# Altium schematic symbol library WL-S7DS.SchLib: 22 symbols
Pins are listed as number, name and electrical type; pins without a type are passive.

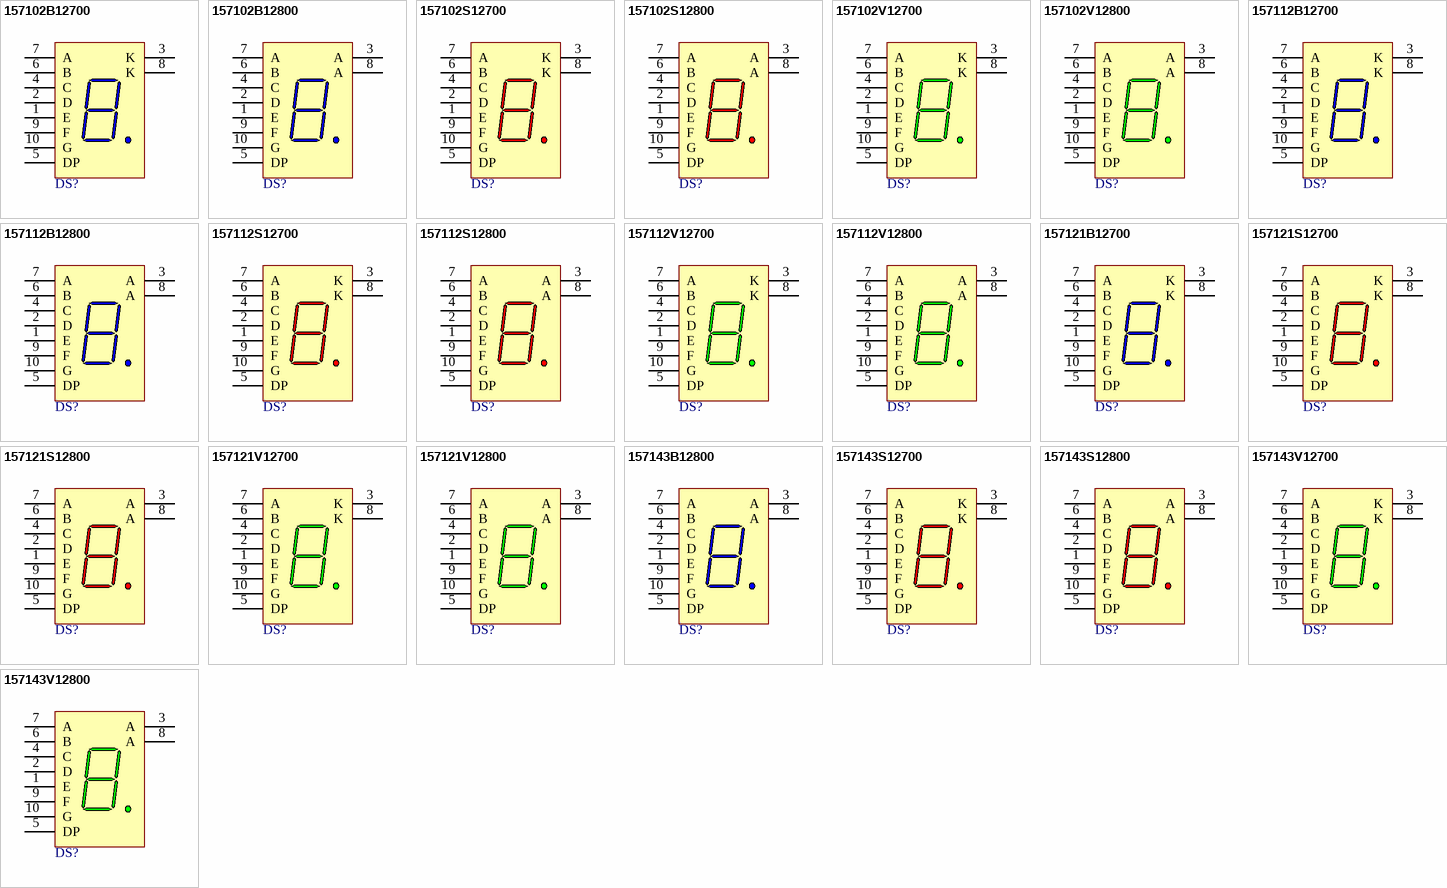
[diagram p0: symbols 157102B12700 to 157143V12800]

## 157102B12700
designator DS?, comment Blue, 3V  (value not drawn)
WL-S7DS 7 Segments Display SMT Single Digit, 0.2" / 5mm, Blue, 3V, 24mcd; Manufacturer Part Number: 157102B12700; Manufacturer: Wurth Elektronik; Circuitry: Common Cathode; ComponentLink1Description: Website Link; ComponentLink1URL: https://www.we-online.com/redexpert/article/157102B12700?ad; ComponentLink2Description: Datasheet Link; ComponentLink2URL: https://www.we-online.com/redexpert/spec/157102B12700?ad; Category: 7 Segments Display; Match Code: WL-S7DS; Mount: Surface Mount; Operating Temperature Max: 85°C; Operating Temperature Min: -35°C; Packaging: Tape and Reel; Length: 10mm; Width: 6.9mm; Height: 3mm; Display Height: 0.2" / 5mm; Emitting Color: Blue; Forward Voltage: 3V; Luminous Intensity: 24mcd
footprint WL-S7DS_L10W6.9H3
pins: 1 E "Cathode", 2 D "Cathode", 3 K "Anode", 4 C "Cathode", 5 DP "Cathode", 6 B "Cathode", 7 A "Cathode", 8 K "Anode", 9 F "Cathode", 10 G "Cathode"

## 157102B12800
designator DS?, comment Blue, 3V  (value not drawn)
WL-S7DS 7 Segments Display SMT Single Digit, 0.2" / 5mm, Blue, 3V, 24mcd; Manufacturer Part Number: 157102B12800; Manufacturer: Wurth Elektronik; Circuitry: Common Anode; ComponentLink1Description: Website Link; ComponentLink1URL: https://www.we-online.com/redexpert/article/157102B12800?ad; ComponentLink2Description: Datasheet Link; ComponentLink2URL: https://www.we-online.com/redexpert/spec/157102B12800?ad; Category: 7 Segments Display; Match Code: WL-S7DS; Mount: Surface Mount; Operating Temperature Max: 85°C; Operating Temperature Min: -35°C; Packaging: Tape and Reel; Length: 10mm; Width: 6.9mm; Height: 3mm; Display Height: 0.2" / 5mm; Emitting Color: Blue; Forward Voltage: 3V; Luminous Intensity: 24mcd
footprint WL-S7DS_L10W6.9H3
pins: 1 E "Cathode", 2 D "Cathode", 3 A "Anode", 4 C "Cathode", 5 DP "Cathode", 6 B "Cathode", 7 A "Cathode", 8 A "Anode", 9 F "Cathode", 10 G "Cathode"

## 157102S12700
designator DS?, comment Super Red, 2V  (value not drawn)
WL-S7DS 7 Segments Display SMT Single Digit, 0.2" / 5mm, Super Red, 2V, 15mcd; Manufacturer Part Number: 157102S12700; Manufacturer: Wurth Elektronik; Circuitry: Common Cathode; ComponentLink1Description: Website Link; ComponentLink1URL: https://www.we-online.com/redexpert/article/157102S12700?ad; ComponentLink2Description: Datasheet Link; ComponentLink2URL: https://www.we-online.com/redexpert/spec/157102S12700?ad; Category: 7 Segments Display; Match Code: WL-S7DS; Mount: Surface Mount; Operating Temperature Max: 85°C; Operating Temperature Min: -35°C; Packaging: Tape and Reel; Length: 10mm; Width: 6.9mm; Height: 3mm; Display Height: 0.2" / 5mm; Emitting Color: Super Red; Forward Voltage: 2V; Luminous Intensity: 15mcd
footprint WL-S7DS_L10W6.9H3
pins: 1 E "Cathode", 2 D "Cathode", 3 K "Anode", 4 C "Cathode", 5 DP "Cathode", 6 B "Cathode", 7 A "Cathode", 8 K "Anode", 9 F "Cathode", 10 G "Cathode"

## 157102S12800
designator DS?, comment Super Red, 2V  (value not drawn)
WL-S7DS 7 Segments Display SMT Single Digit, 0.2" / 5mm, Super Red, 2V, 16mcd; Manufacturer Part Number: 157102S12800; Manufacturer: Wurth Elektronik; Circuitry: Common Anode; ComponentLink1Description: Website Link; ComponentLink1URL: https://www.we-online.com/redexpert/article/157102S12800?ad; ComponentLink2Description: Datasheet Link; ComponentLink2URL: https://www.we-online.com/redexpert/spec/157102S12800?ad; Category: 7 Segments Display; Match Code: WL-S7DS; Mount: Surface Mount; Operating Temperature Max: 85°C; Operating Temperature Min: -35°C; Packaging: Tape and Reel; Length: 10mm; Width: 6.9mm; Height: 3mm; Display Height: 0.2" / 5mm; Emitting Color: Super Red; Forward Voltage: 2V; Luminous Intensity: 16mcd
footprint WL-S7DS_L10W6.9H3
pins: 1 E "Cathode", 2 D "Cathode", 3 A "Anode", 4 C "Cathode", 5 DP "Cathode", 6 B "Cathode", 7 A "Cathode", 8 A "Anode", 9 F "Cathode", 10 G "Cathode"

## 157102V12700
designator DS?, comment Bright Green, 2V  (value not drawn)
WL-S7DS 7 Segments Display SMT Single Digit, 0.2" / 5mm, Bright Green, 2V, 17mcd; Manufacturer Part Number: 157102V12700; Manufacturer: Wurth Elektronik; Circuitry: Common Cathode; ComponentLink1Description: Website Link; ComponentLink1URL: https://www.we-online.com/redexpert/article/157102V12700?ad; ComponentLink2Description: Datasheet Link; ComponentLink2URL: https://www.we-online.com/redexpert/spec/157102V12700?ad; Category: 7 Segments Display; Match Code: WL-S7DS; Mount: Surface Mount; Operating Temperature Max: 85°C; Operating Temperature Min: -35°C; Packaging: Tape and Reel; Length: 10mm; Width: 6.9mm; Height: 3mm; Display Height: 0.2" / 5mm; Emitting Color: Bright Green; Forward Voltage: 2V; Luminous Intensity: 17mcd
footprint WL-S7DS_L10W6.9H3
pins: 1 E "Cathode", 2 D "Cathode", 3 K "Anode", 4 C "Cathode", 5 DP "Cathode", 6 B "Cathode", 7 A "Cathode", 8 K "Anode", 9 F "Cathode", 10 G "Cathode"

## 157102V12800
designator DS?, comment Bright Green, 2V  (value not drawn)
WL-S7DS 7 Segments Display SMT Single Digit, 0.2" / 5mm, Bright Green, 2V, 17mcd; Manufacturer Part Number: 157102V12800; Manufacturer: Wurth Elektronik; Circuitry: Common Anode; ComponentLink1Description: Website Link; ComponentLink1URL: https://www.we-online.com/redexpert/article/157102V12800?ad; ComponentLink2Description: Datasheet Link; ComponentLink2URL: https://www.we-online.com/redexpert/spec/157102V12800?ad; Category: 7 Segments Display; Match Code: WL-S7DS; Mount: Surface Mount; Operating Temperature Max: 85°C; Operating Temperature Min: -35°C; Packaging: Tape and Reel; Length: 10mm; Width: 6.9mm; Height: 3mm; Display Height: 0.2" / 5mm; Emitting Color: Bright Green; Forward Voltage: 2V; Luminous Intensity: 17mcd
footprint WL-S7DS_L10W6.9H3
pins: 1 E "Cathode", 2 D "Cathode", 3 A "Anode", 4 C "Cathode", 5 DP "Cathode", 6 B "Cathode", 7 A "Cathode", 8 A "Anode", 9 F "Cathode", 10 G "Cathode"

## 157112B12700
designator DS?, comment Blue, 3V  (value not drawn)
WL-S7DS 7 Segments Display SMT Single Digit, 0.3" / 7.62mm, Blue, 3V, 32mcd; Manufacturer Part Number: 157112B12700; Manufacturer: Wurth Elektronik; Circuitry: Common Cathode; ComponentLink1Description: Website Link; ComponentLink1URL: https://www.we-online.com/redexpert/article/157112B12700?ad; ComponentLink2Description: Datasheet Link; ComponentLink2URL: https://www.we-online.com/redexpert/spec/157112B12700?ad; Category: 7 Segments Display; Match Code: WL-S7DS; Mount: Surface Mount; Operating Temperature Max: 85°C; Operating Temperature Min: -35°C; Packaging: Tape and Reel; Length: 12mm; Width: 7.3mm; Height: 3.75mm; Display Height: 0.3" / 7.62mm; Emitting Color: Blue; Forward Voltage: 3V; Luminous Intensity: 32mcd
footprint WL-S7DS_L12W7.3H3.75
pins: 1 E "Cathode", 2 D "Cathode", 3 K "Anode", 4 C "Cathode", 5 DP "Cathode", 6 B "Cathode", 7 A "Cathode", 8 K "Anode", 9 F "Cathode", 10 G "Cathode"

## 157112B12800
designator DS?, comment Blue, 3V  (value not drawn)
WL-S7DS 7 Segments Display SMT Single Digit, 0.3" / 7.62mm, Blue, 3V, 32mcd; Manufacturer Part Number: 157112B12800; Manufacturer: Wurth Elektronik; Circuitry: Common Anode; ComponentLink1Description: Website Link; ComponentLink1URL: https://www.we-online.com/redexpert/article/157112B12800?ad; ComponentLink2Description: Datasheet Link; ComponentLink2URL: https://www.we-online.com/redexpert/spec/157112B12800?ad; Category: 7 Segments Display; Match Code: WL-S7DS; Mount: Surface Mount; Operating Temperature Max: 85°C; Operating Temperature Min: -35°C; Packaging: Tape and Reel; Length: 12mm; Width: 7.3mm; Height: 3.75mm; Display Height: 0.3" / 7.62mm; Emitting Color: Blue; Forward Voltage: 3V; Luminous Intensity: 32mcd
footprint WL-S7DS_L12W7.3H3.75
pins: 1 E "Cathode", 2 D "Cathode", 3 A "Anode", 4 C "Cathode", 5 DP "Cathode", 6 B "Cathode", 7 A "Cathode", 8 A "Anode", 9 F "Cathode", 10 G "Cathode"

## 157112S12700
designator DS?, comment Super Red, 2V  (value not drawn)
WL-S7DS 7 Segments Display SMT Single Digit, 0.3" / 7.62mm, Super Red, 2V, 28mcd; Manufacturer Part Number: 157112S12700; Manufacturer: Wurth Elektronik; Circuitry: Common Cathode; ComponentLink1Description: Website Link; ComponentLink1URL: https://www.we-online.com/redexpert/article/157112S12700?ad; ComponentLink2Description: Datasheet Link; ComponentLink2URL: https://www.we-online.com/redexpert/spec/157112S12700?ad; Category: 7 Segments Display; Match Code: WL-S7DS; Mount: Surface Mount; Operating Temperature Max: 85°C; Operating Temperature Min: -35°C; Packaging: Tape and Reel; Length: 12mm; Width: 7.3mm; Height: 3.75mm; Display Height: 0.3" / 7.62mm; Emitting Color: Super Red; Forward Voltage: 2V; Luminous Intensity: 28mcd
footprint WL-S7DS_L12W7.3H3.75
pins: 1 E "Cathode", 2 D "Cathode", 3 K "Anode", 4 C "Cathode", 5 DP "Cathode", 6 B "Cathode", 7 A "Cathode", 8 K "Anode", 9 F "Cathode", 10 G "Cathode"

## 157112S12800
designator DS?, comment Super Red, 2V  (value not drawn)
WL-S7DS 7 Segments Display SMT Single Digit, 0.3" / 7.62mm, Super Red, 2V, 28mcd; Manufacturer Part Number: 157112S12800; Manufacturer: Wurth Elektronik; Circuitry: Common Anode; ComponentLink1Description: Website Link; ComponentLink1URL: https://www.we-online.com/redexpert/article/157112S12800?ad; ComponentLink2Description: Datasheet Link; ComponentLink2URL: https://www.we-online.com/redexpert/spec/157112S12800?ad; Category: 7 Segments Display; Match Code: WL-S7DS; Mount: Surface Mount; Operating Temperature Max: 85°C; Operating Temperature Min: -35°C; Packaging: Tape and Reel; Length: 12mm; Width: 7.3mm; Height: 3.75mm; Display Height: 0.3" / 7.62mm; Emitting Color: Super Red; Forward Voltage: 2V; Luminous Intensity: 28mcd
footprint WL-S7DS_L12W7.3H3.75
pins: 1 E "Cathode", 2 D "Cathode", 3 A "Anode", 4 C "Cathode", 5 DP "Cathode", 6 B "Cathode", 7 A "Cathode", 8 A "Anode", 9 F "Cathode", 10 G "Cathode"

## 157112V12700
designator DS?, comment Bright Green, 2V  (value not drawn)
WL-S7DS 7 Segments Display SMT Single Digit, 0.3" / 7.62mm, Bright Green, 2V, 21mcd; Manufacturer Part Number: 157112V12700; Manufacturer: Wurth Elektronik; Circuitry: Common Cathode; ComponentLink1Description: Website Link; ComponentLink1URL: https://www.we-online.com/redexpert/article/157112V12700?ad; ComponentLink2Description: Datasheet Link; ComponentLink2URL: https://www.we-online.com/redexpert/spec/157112V12700?ad; Category: 7 Segments Display; Match Code: WL-S7DS; Mount: Surface Mount; Operating Temperature Max: 85°C; Operating Temperature Min: -35°C; Packaging: Tape and Reel; Length: 12mm; Width: 7.3mm; Height: 3.75mm; Display Height: 0.3" / 7.62mm; Emitting Color: Bright Green; Forward Voltage: 2V; Luminous Intensity: 21mcd
footprint WL-S7DS_L12W7.3H3.75
pins: 1 E "Cathode", 2 D "Cathode", 3 K "Anode", 4 C "Cathode", 5 DP "Cathode", 6 B "Cathode", 7 A "Cathode", 8 K "Anode", 9 F "Cathode", 10 G "Cathode"

## 157112V12800
designator DS?, comment Bright Green, 2V  (value not drawn)
WL-S7DS 7 Segments Display SMT Single Digit, 0.3" / 7.62mm, Bright Green, 2V, 21mcd; Manufacturer Part Number: 157112V12800; Manufacturer: Wurth Elektronik; Circuitry: Common Anode; ComponentLink1Description: Website Link; ComponentLink1URL: https://www.we-online.com/redexpert/article/157112V12800?ad; ComponentLink2Description: Datasheet Link; ComponentLink2URL: https://www.we-online.com/redexpert/spec/157112V12800?ad; Category: 7 Segments Display; Match Code: WL-S7DS; Mount: Surface Mount; Operating Temperature Max: 85°C; Operating Temperature Min: -35°C; Packaging: Tape and Reel; Length: 12mm; Width: 7.3mm; Height: 3.75mm; Display Height: 0.3" / 7.62mm; Emitting Color: Bright Green; Forward Voltage: 2V; Luminous Intensity: 21mcd
footprint WL-S7DS_L12W7.3H3.75
pins: 1 E "Cathode", 2 D "Cathode", 3 A "Anode", 4 C "Cathode", 5 DP "Cathode", 6 B "Cathode", 7 A "Cathode", 8 A "Anode", 9 F "Cathode", 10 G "Cathode"

## 157121B12700
designator DS?, comment Blue, 3V  (value not drawn)
WL-S7DS 7 Segments Display SMT Single Digit, 0.39" / 10mm, Blue, 3V, 32mcd; Manufacturer Part Number: 157121B12700; Manufacturer: Wurth Elektronik; Circuitry: Common Cathode; ComponentLink1Description: Website Link; ComponentLink1URL: https://www.we-online.com/redexpert/article/157121B12700?ad; ComponentLink2Description: Datasheet Link; ComponentLink2URL: https://www.we-online.com/redexpert/spec/157121B12700?ad; Category: 7 Segments Display; Match Code: WL-S7DS; Mount: Surface Mount; Operating Temperature Max: 85°C; Operating Temperature Min: -35°C; Packaging: Tape and Reel; Length: 15mm; Width: 9.8mm; Height: 3.75mm; Display Height: 0.39" / 10mm; Emitting Color: Blue; Forward Voltage: 3V; Luminous Intensity: 32mcd
footprint WL-S7DS_L15W9.8H3.75
pins: 1 E "Cathode", 2 D "Cathode", 3 K "Anode", 4 C "Cathode", 5 DP "Cathode", 6 B "Cathode", 7 A "Cathode", 8 K "Anode", 9 F "Cathode", 10 G "Cathode"

## 157121S12700
designator DS?, comment Super Red, 2V  (value not drawn)
WL-S7DS 7 Segments Display SMT Single Digit, 0.39" / 10mm, Super Red, 2V, 38mcd; Manufacturer Part Number: 157121S12700; Manufacturer: Wurth Elektronik; Circuitry: Common Cathode; ComponentLink1Description: Website Link; ComponentLink1URL: https://www.we-online.com/redexpert/article/157121S12700?ad; ComponentLink2Description: Datasheet Link; ComponentLink2URL: https://www.we-online.com/redexpert/spec/157121S12700?ad; Category: 7 Segments Display; Match Code: WL-S7DS; Mount: Surface Mount; Operating Temperature Max: 85°C; Operating Temperature Min: -35°C; Packaging: Tape and Reel; Length: 15mm; Width: 9.8mm; Height: 3.75mm; Display Height: 0.39" / 10mm; Emitting Color: Super Red; Forward Voltage: 2V; Luminous Intensity: 38mcd
footprint WL-S7DS_L15W9.8H3.75
pins: 1 E "Cathode", 2 D "Cathode", 3 K "Anode", 4 C "Cathode", 5 DP "Cathode", 6 B "Cathode", 7 A "Cathode", 8 K "Anode", 9 F "Cathode", 10 G "Cathode"

## 157121S12800
designator DS?, comment Super Red, 2V  (value not drawn)
WL-S7DS 7 Segments Display SMT Single Digit, 0.39" / 10mm, Super Red, 2V, 38mcd; Manufacturer Part Number: 157121S12800; Manufacturer: Wurth Elektronik; Circuitry: Common Anode; ComponentLink1Description: Website Link; ComponentLink1URL: https://www.we-online.com/redexpert/article/157121S12800?ad; ComponentLink2Description: Datasheet Link; ComponentLink2URL: https://www.we-online.com/redexpert/spec/157121S12800?ad; Category: 7 Segments Display; Match Code: WL-S7DS; Mount: Surface Mount; Operating Temperature Max: 85°C; Operating Temperature Min: -35°C; Packaging: Tape and Reel; Length: 15mm; Width: 9.8mm; Height: 3.75mm; Display Height: 0.39" / 10mm; Emitting Color: Super Red; Forward Voltage: 2V; Luminous Intensity: 38mcd
footprint WL-S7DS_L15W9.8H3.75
pins: 1 E "Cathode", 2 D "Cathode", 3 A "Anode", 4 C "Cathode", 5 DP "Cathode", 6 B "Cathode", 7 A "Cathode", 8 A "Anode", 9 F "Cathode", 10 G "Cathode"

## 157121V12700
designator DS?, comment Bright Green, 2V  (value not drawn)
WL-S7DS 7 Segments Display SMT Single Digit, 0.39" / 10mm, Bright Green, 2V, 35mcd; Manufacturer Part Number: 157121V12700; Manufacturer: Wurth Elektronik; Circuitry: Common Cathode; ComponentLink1Description: Website Link; ComponentLink1URL: https://www.we-online.com/redexpert/article/157121V12700?ad; ComponentLink2Description: Datasheet Link; ComponentLink2URL: https://www.we-online.com/redexpert/spec/157121V12700?ad; Category: 7 Segments Display; Match Code: WL-S7DS; Mount: Surface Mount; Operating Temperature Max: 85°C; Operating Temperature Min: -35°C; Packaging: Tape and Reel; Length: 15mm; Width: 9.8mm; Height: 3.75mm; Display Height: 0.39" / 10mm; Emitting Color: Bright Green; Forward Voltage: 2V; Luminous Intensity: 35mcd
footprint WL-S7DS_L15W9.8H3.75
pins: 1 E "Cathode", 2 D "Cathode", 3 K "Anode", 4 C "Cathode", 5 DP "Cathode", 6 B "Cathode", 7 A "Cathode", 8 K "Anode", 9 F "Cathode", 10 G "Cathode"

## 157121V12800
designator DS?, comment Bright Green, 2V  (value not drawn)
WL-S7DS 7 Segments Display SMT Single Digit, 0.39" / 10mm, Bright Green, 2V, 35mcd; Manufacturer Part Number: 157121V12800; Manufacturer: Wurth Elektronik; Circuitry: Common Anode; ComponentLink1Description: Website Link; ComponentLink1URL: https://www.we-online.com/redexpert/article/157121V12800?ad; ComponentLink2Description: Datasheet Link; ComponentLink2URL: https://www.we-online.com/redexpert/spec/157121V12800?ad; Category: 7 Segments Display; Match Code: WL-S7DS; Mount: Surface Mount; Operating Temperature Max: 85°C; Operating Temperature Min: -35°C; Packaging: Tape and Reel; Length: 15mm; Width: 9.8mm; Height: 3.75mm; Display Height: 0.39" / 10mm; Emitting Color: Bright Green; Forward Voltage: 2V; Luminous Intensity: 35mcd
footprint WL-S7DS_L15W9.8H3.75
pins: 1 E "Cathode", 2 D "Cathode", 3 A "Anode", 4 C "Cathode", 5 DP "Cathode", 6 B "Cathode", 7 A "Cathode", 8 A "Anode", 9 F "Cathode", 10 G "Cathode"

## 157143B12800
designator DS?, comment Blue, 3V  (value not drawn)
WL-S7DS 7 Segments Display SMT Single Digit, 0.56" / 14.22mm, Blue, 3V, 32mcd; Manufacturer Part Number: 157143B12800; Manufacturer: Wurth Elektronik; Circuitry: Common Anode; ComponentLink1Description: Website Link; ComponentLink1URL: https://www.we-online.com/redexpert/article/157143B12800?ad; ComponentLink2Description: Datasheet Link; ComponentLink2URL: https://www.we-online.com/redexpert/spec/157143B12800?ad; Category: 7 Segments Display; Match Code: WL-S7DS; Mount: Surface Mount; Operating Temperature Max: 85°C; Operating Temperature Min: -35°C; Packaging: Tape and Reel; Length: 19mm; Width: 12.4mm; Height: 3.75mm; Display Height: 0.56" / 14.22mm; Emitting Color: Blue; Forward Voltage: 3V; Luminous Intensity: 32mcd
footprint WL-S7DS_L19W12.4H3.75
pins: 1 E "Cathode", 2 D "Cathode", 3 A "Anode", 4 C "Cathode", 5 DP "Cathode", 6 B "Cathode", 7 A "Cathode", 8 A "Anode", 9 F "Cathode", 10 G "Cathode"

## 157143S12700
designator DS?, comment Super Red, 2V  (value not drawn)
WL-S7DS 7 Segments Display SMT Single Digit, 0.56" / 14.22mm, Super Red, 2V, 28mcd; Manufacturer Part Number: 157143S12700; Manufacturer: Wurth Elektronik; Circuitry: Common Cathode; ComponentLink1Description: Website Link; ComponentLink1URL: https://www.we-online.com/redexpert/article/157143S12700?ad; ComponentLink2Description: Datasheet Link; ComponentLink2URL: https://www.we-online.com/redexpert/spec/157143S12700?ad; Category: 7 Segments Display; Match Code: WL-S7DS; Mount: Surface Mount; Operating Temperature Max: 85°C; Operating Temperature Min: -35°C; Packaging: Tape and Reel; Length: 19mm; Width: 12.4mm; Height: 3.75mm; Display Height: 0.56" / 14.22mm; Emitting Color: Super Red; Forward Voltage: 2V; Luminous Intensity: 28mcd
footprint WL-S7DS_L19W12.4H3.75
pins: 1 E "Cathode", 2 D "Cathode", 3 K "Anode", 4 C "Cathode", 5 DP "Cathode", 6 B "Cathode", 7 A "Cathode", 8 K "Anode", 9 F "Cathode", 10 G "Cathode"

## 157143S12800
designator DS?, comment Super Red, 2V  (value not drawn)
WL-S7DS 7 Segments Display SMT Single Digit, 0.56" / 14.22mm, Super Red, 2V, 28mcd; Manufacturer Part Number: 157143S12800; Manufacturer: Wurth Elektronik; Circuitry: Common Anode; ComponentLink1Description: Website Link; ComponentLink1URL: https://www.we-online.com/redexpert/article/157143S12800?ad; ComponentLink2Description: Datasheet Link; ComponentLink2URL: https://www.we-online.com/redexpert/spec/157143S12800?ad; Category: 7 Segments Display; Match Code: WL-S7DS; Mount: Surface Mount; Operating Temperature Max: 85°C; Operating Temperature Min: -35°C; Packaging: Tape and Reel; Length: 19mm; Width: 12.4mm; Height: 3.75mm; Display Height: 0.56" / 14.22mm; Emitting Color: Super Red; Forward Voltage: 2V; Luminous Intensity: 28mcd
footprint WL-S7DS_L19W12.4H3.75
pins: 1 E "Cathode", 2 D "Cathode", 3 A "Anode", 4 C "Cathode", 5 DP "Cathode", 6 B "Cathode", 7 A "Cathode", 8 A "Anode", 9 F "Cathode", 10 G "Cathode"

## 157143V12700
designator DS?, comment Bright Green, 2V  (value not drawn)
WL-S7DS 7 Segments Display SMT Single Digit, 0.56" / 14.22mm, Bright Green, 2V, 35mcd; Manufacturer Part Number: 157143V12700; Manufacturer: Wurth Elektronik; Circuitry: Common Cathode; ComponentLink1Description: Website Link; ComponentLink1URL: https://www.we-online.com/redexpert/article/157143V12700?ad; ComponentLink2Description: Datasheet Link; ComponentLink2URL: https://www.we-online.com/redexpert/spec/157143V12700?ad; Category: 7 Segments Display; Match Code: WL-S7DS; Mount: Surface Mount; Operating Temperature Max: 85°C; Operating Temperature Min: -35°C; Packaging: Tape and Reel; Length: 19mm; Width: 12.4mm; Height: 3.75mm; Display Height: 0.56" / 14.22mm; Emitting Color: Bright Green; Forward Voltage: 2V; Luminous Intensity: 35mcd
footprint WL-S7DS_L19W12.4H3.75
pins: 1 E "Cathode", 2 D "Cathode", 3 K "Anode", 4 C "Cathode", 5 DP "Cathode", 6 B "Cathode", 7 A "Cathode", 8 K "Anode", 9 F "Cathode", 10 G "Cathode"

## 157143V12800
designator DS?, comment Bright Green, 2V  (value not drawn)
WL-S7DS 7 Segments Display SMT Single Digit, 0.56" / 14.22mm, Bright Green, 2V, 35mcd; Manufacturer Part Number: 157143V12800; Manufacturer: Wurth Elektronik; Circuitry: Common Anode; ComponentLink1Description: Website Link; ComponentLink1URL: https://www.we-online.com/redexpert/article/157143V12800?ad; ComponentLink2Description: Datasheet Link; ComponentLink2URL: https://www.we-online.com/redexpert/spec/157143V12800?ad; Category: 7 Segments Display; Match Code: WL-S7DS; Mount: Surface Mount; Operating Temperature Max: 85°C; Operating Temperature Min: -35°C; Packaging: Tape and Reel; Length: 19mm; Width: 12.4mm; Height: 3.75mm; Display Height: 0.56" / 14.22mm; Emitting Color: Bright Green; Forward Voltage: 2V; Luminous Intensity: 35mcd
footprint WL-S7DS_L19W12.4H3.75
pins: 1 E "Cathode", 2 D "Cathode", 3 A "Anode", 4 C "Cathode", 5 DP "Cathode", 6 B "Cathode", 7 A "Cathode", 8 A "Anode", 9 F "Cathode", 10 G "Cathode"